# Altium footprint library SolidStateTeslaCoilPCBLIB.PcbLib: 16 footprints
Each footprint in its own frame and in the unit in brackets; x right, y up, seen from the top. Pads: shape width x height; smd on the part's side, far side on the other; paste and mask are expansions set on the pad; w line width, h text height; cw(c..) or ccw(c..) is an arc to the next point about the centre after c.
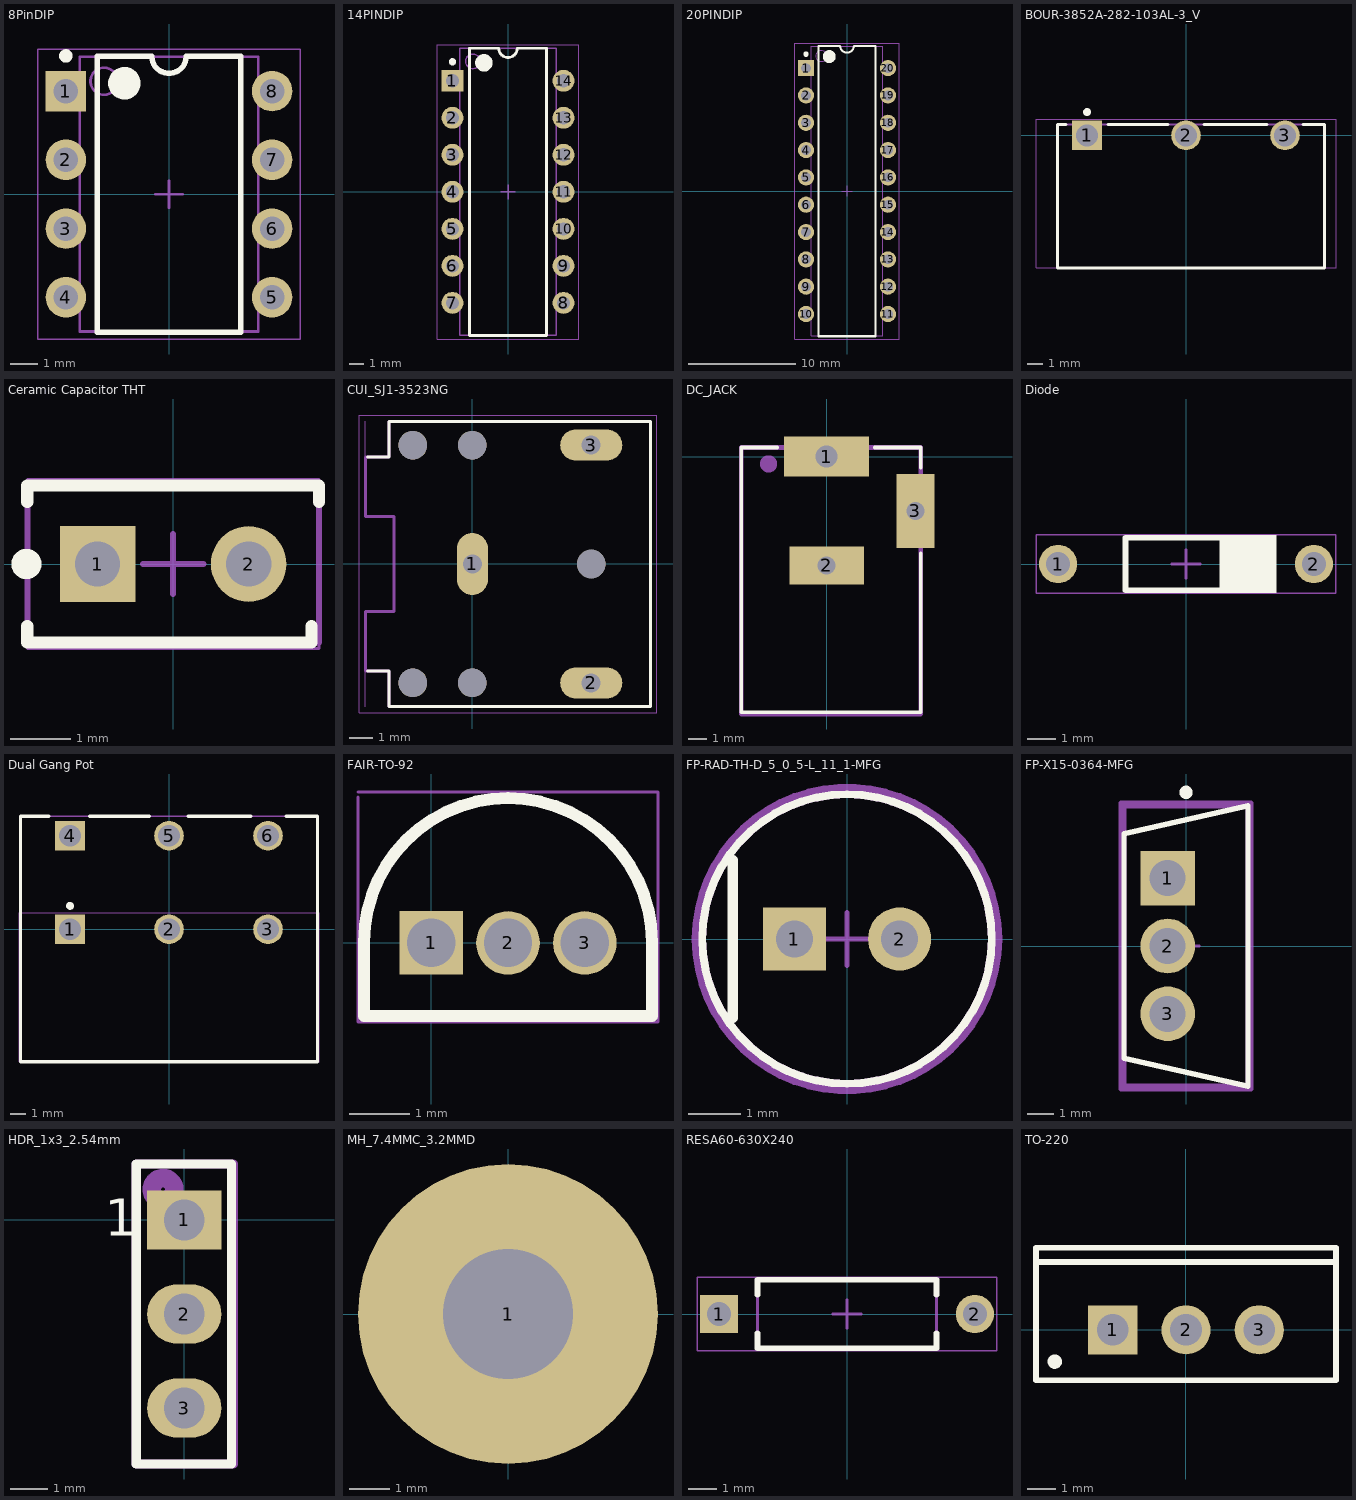
[diagram p0: the footprints below, top view; thin cyan lines are the x and y axes]

## 8PinDIP [mm] "DIP, 8-Leads, Body 10.15x6.6mm, Pitch 2.54mm"
height 5.08
pads (8):
  rect 1.5x1.5 hole 0.9: 1(-3.81,3.81)
  round 1.5 hole 0.9: 2(-3.81,1.27) 3(-3.81,-1.27) 4(-3.81,-3.81) 5(3.81,-3.81) 6(3.81,-1.27) 7(3.81,1.27) 8(3.81,3.81)
Top Overlay:
  circle w0.25: c-3.81,5.11 r0.125
  circle w0.6: c-1.65,4.1 r0.3
  lines w0.2: -2.65,-5.1 -2.65,5.1 -0.635,5.1 ccw(c0,5.1) 0.635,5.1 2.65,5.1 2.65,-5.1 -2.65,-5.1
Mechanical 1:
  text ".Designator" at -2.032,-0.381 h1.2
Mechanical 13:
  circle w0.1: c-2.4,4.175 r0.5
  lines w0.1: -3.3,-5.075 -3.3,5.075 3.3,5.075 3.3,-5.075 -3.3,-5.075
Mechanical 15:
  lines w0.05: -4.85,-5.35 -4.85,5.35 4.85,5.35 4.85,-5.35 -4.85,-5.35
  lines w0.1: -0.5,0 0.5,0 ; 0,-0.5 0,0.5
3D body: height 2.66, standoff 0, extent -3.945,3.31 -3.675,4.31
3D body: height 2.93, standoff 2.66, extent -3.945,3.31 -3.3,4.31
3D body: height 0, standoff -1.6, extent -3.945,3.45 -3.675,4.17
3D body: height 2.66, standoff 0, extent -3.945,0.77 -3.675,1.77
3D body: height 2.93, standoff 2.66, extent -3.945,0.77 -3.3,1.77
3D body: height 0, standoff -1.6, extent -3.945,0.91 -3.675,1.63
3D body: height 2.66, standoff 0, extent -3.945,-1.77 -3.675,-0.77
3D body: height 2.93, standoff 2.66, extent -3.945,-1.77 -3.3,-0.77
3D body: height 0, standoff -1.6, extent -3.945,-1.63 -3.675,-0.91
3D body: height 2.66, standoff 0, extent -3.945,-4.31 -3.675,-3.31
3D body: height 2.93, standoff 2.66, extent -3.945,-4.31 -3.3,-3.31
3D body: height 0, standoff -1.6, extent -3.945,-4.17 -3.675,-3.45
3D body: height 2.66, standoff 0, extent 3.675,-4.31 3.945,-3.31
3D body: height 2.93, standoff 2.66, extent 3.3,-4.31 3.945,-3.31
3D body: height 0, standoff -1.6, extent 3.675,-4.17 3.945,-3.45
3D body: height 2.66, standoff 0, extent 3.675,-1.77 3.945,-0.77
3D body: height 2.93, standoff 2.66, extent 3.3,-1.77 3.945,-0.77
3D body: height 0, standoff -1.6, extent 3.675,-1.63 3.945,-0.91
3D body: height 2.66, standoff 0, extent 3.675,0.77 3.945,1.77
3D body: height 2.93, standoff 2.66, extent 3.3,0.77 3.945,1.77
3D body: height 0, standoff -1.6, extent 3.675,0.91 3.945,1.63
3D body: height 2.66, standoff 0, extent 3.675,3.31 3.945,4.31
3D body: height 2.93, standoff 2.66, extent 3.3,3.31 3.945,4.31
3D body: height 0, standoff -1.6, extent 3.675,3.45 3.945,4.17
3D body: height 5.08, standoff 0.51, extent -3.3,-5.075 3.3,5.075

## 14PINDIP [mm] "DIP, 14-Leads, Body 19.7x6.6mm, Pitch 2.54mm"
height 5.08
pads (14):
  rect 1.5x1.5 hole 0.9: 1(-3.81,7.62)
  round 1.5 hole 0.9: 2(-3.81,5.08) 3(-3.81,2.54) 4(-3.81,0) 5(-3.81,-2.54) 6(-3.81,-5.08) 7(-3.81,-7.62) 8(3.81,-7.62) 9(3.81,-5.08) 10(3.81,-2.54) 11(3.81,0) 12(3.81,2.54) 13(3.81,5.08) 14(3.81,7.62)
Top Overlay:
  circle w0.25: c-3.81,8.92 r0.125
  circle w0.6: c-1.65,8.85 r0.3
  lines w0.2: -2.65,-9.85 -2.65,9.85 -0.635,9.85 ccw(c0,9.85) 0.635,9.85 2.65,9.85 2.65,-9.85 -2.65,-9.85
Mechanical 1:
  text ".Designator" at -3.048,-0.508 h1.2
Mechanical 13:
  circle w0.1: c-2.4,8.95 r0.5
  lines w0.1: -3.3,-9.85 -3.3,9.85 3.3,9.85 3.3,-9.85 -3.3,-9.85
Mechanical 15:
  lines w0.05: -4.85,-10.1 -4.85,10.1 4.85,10.1 4.85,-10.1 -4.85,-10.1
  lines w0.1: -0.5,0 0.5,0 ; 0,-0.5 0,0.5
3D body: height 2.66, standoff 0, extent -3.945,7.12 -3.675,8.12
3D body: height 2.93, standoff 2.66, extent -3.945,7.12 -3.3,8.12
3D body: height 0, standoff -1.6, extent -3.945,7.26 -3.675,7.98
3D body: height 2.66, standoff 0, extent -3.945,4.58 -3.675,5.58
3D body: height 2.93, standoff 2.66, extent -3.945,4.58 -3.3,5.58
3D body: height 0, standoff -1.6, extent -3.945,4.72 -3.675,5.44
3D body: height 2.66, standoff 0, extent -3.945,2.04 -3.675,3.04
3D body: height 2.93, standoff 2.66, extent -3.945,2.04 -3.3,3.04
3D body: height 0, standoff -1.6, extent -3.945,2.18 -3.675,2.9
3D body: height 2.66, standoff 0, extent -3.945,-0.5 -3.675,0.5
3D body: height 2.93, standoff 2.66, extent -3.945,-0.5 -3.3,0.5
3D body: height 0, standoff -1.6, extent -3.945,-0.36 -3.675,0.36
3D body: height 2.66, standoff 0, extent -3.945,-3.04 -3.675,-2.04
3D body: height 2.93, standoff 2.66, extent -3.945,-3.04 -3.3,-2.04
3D body: height 0, standoff -1.6, extent -3.945,-2.9 -3.675,-2.18
3D body: height 2.66, standoff 0, extent -3.945,-5.58 -3.675,-4.58
3D body: height 2.93, standoff 2.66, extent -3.945,-5.58 -3.3,-4.58
3D body: height 0, standoff -1.6, extent -3.945,-5.44 -3.675,-4.72
3D body: height 2.66, standoff 0, extent -3.945,-8.12 -3.675,-7.12
3D body: height 2.93, standoff 2.66, extent -3.945,-8.12 -3.3,-7.12
3D body: height 0, standoff -1.6, extent -3.945,-7.98 -3.675,-7.26
3D body: height 2.66, standoff 0, extent 3.675,-8.12 3.945,-7.12
3D body: height 2.93, standoff 2.66, extent 3.3,-8.12 3.945,-7.12
3D body: height 0, standoff -1.6, extent 3.675,-7.98 3.945,-7.26
3D body: height 2.66, standoff 0, extent 3.675,-5.58 3.945,-4.58
3D body: height 2.93, standoff 2.66, extent 3.3,-5.58 3.945,-4.58
3D body: height 0, standoff -1.6, extent 3.675,-5.44 3.945,-4.72
3D body: height 2.66, standoff 0, extent 3.675,-3.04 3.945,-2.04
3D body: height 2.93, standoff 2.66, extent 3.3,-3.04 3.945,-2.04
3D body: height 0, standoff -1.6, extent 3.675,-2.9 3.945,-2.18
3D body: height 2.66, standoff 0, extent 3.675,-0.5 3.945,0.5
3D body: height 2.93, standoff 2.66, extent 3.3,-0.5 3.945,0.5
3D body: height 0, standoff -1.6, extent 3.675,-0.36 3.945,0.36
3D body: height 2.66, standoff 0, extent 3.675,2.04 3.945,3.04
3D body: height 2.93, standoff 2.66, extent 3.3,2.04 3.945,3.04
3D body: height 0, standoff -1.6, extent 3.675,2.18 3.945,2.9
3D body: height 2.66, standoff 0, extent 3.675,4.58 3.945,5.58
3D body: height 2.93, standoff 2.66, extent 3.3,4.58 3.945,5.58
3D body: height 0, standoff -1.6, extent 3.675,4.72 3.945,5.44
3D body: height 2.66, standoff 0, extent 3.675,7.12 3.945,8.12
3D body: height 2.93, standoff 2.66, extent 3.3,7.12 3.945,8.12
3D body: height 0, standoff -1.6, extent 3.675,7.26 3.945,7.98
3D body: height 5.08, standoff 0.51, extent -3.3,-9.85 3.3,9.85

## 20PINDIP [mm] "DIP, 20-Leads, Body 26.9x6.6mm, Pitch 2.54mm"
height 5.08
pads (20):
  rect 1.5x1.5 hole 0.9: 1(-3.81,11.43)
  round 1.5 hole 0.9: 2(-3.81,8.89) 3(-3.81,6.35) 4(-3.81,3.81) 5(-3.81,1.27) 6(-3.81,-1.27) 7(-3.81,-3.81) 8(-3.81,-6.35) 9(-3.81,-8.89) 10(-3.81,-11.43) 11(3.81,-11.43) 12(3.81,-8.89) 13(3.81,-6.35) 14(3.81,-3.81) 15(3.81,-1.27) 16(3.81,1.27) 17(3.81,3.81) 18(3.81,6.35) 19(3.81,8.89) 20(3.81,11.43)
Top Overlay:
  circle w0.6: c-1.65,12.5 r0.3
  circle w0.25: c-3.81,12.73 r0.125
  lines w0.2: -2.65,-13.5 2.65,-13.5 2.65,13.5 0.635,13.5 cw(c0,13.5) -0.635,13.5 -2.65,13.5 -2.65,-13.5
Mechanical 1:
  text ".Designator" at -2.794,-0.381 h1.2
Mechanical 13:
  circle w0.1: c-2.4,12.55 r0.5
  lines w0.1: -3.3,-13.45 3.3,-13.45 3.3,13.45 -3.3,13.45 -3.3,-13.45
Mechanical 15:
  lines w0.05: -4.85,-13.75 4.85,-13.75 4.85,13.75 -4.85,13.75 -4.85,-13.75
  lines w0.1: -0.5,0 0.5,0 ; 0,-0.5 0,0.5
3D body: height 0, standoff -1.6, extent 3.675,11.07 3.945,11.79
3D body: height 2.93, standoff 2.66, extent 3.3,10.93 3.945,11.93
3D body: height 2.66, standoff 0, extent 3.675,10.93 3.945,11.93
3D body: height 0, standoff -1.6, extent 3.675,8.53 3.945,9.25
3D body: height 2.93, standoff 2.66, extent 3.3,8.39 3.945,9.39
3D body: height 2.66, standoff 0, extent 3.675,8.39 3.945,9.39
3D body: height 0, standoff -1.6, extent 3.675,5.99 3.945,6.71
3D body: height 2.93, standoff 2.66, extent 3.3,5.85 3.945,6.85
3D body: height 2.66, standoff 0, extent 3.675,5.85 3.945,6.85
3D body: height 0, standoff -1.6, extent 3.675,3.45 3.945,4.17
3D body: height 2.93, standoff 2.66, extent 3.3,3.31 3.945,4.31
3D body: height 2.66, standoff 0, extent 3.675,3.31 3.945,4.31
3D body: height 0, standoff -1.6, extent 3.675,0.91 3.945,1.63
3D body: height 2.93, standoff 2.66, extent 3.3,0.77 3.945,1.77
3D body: height 2.66, standoff 0, extent 3.675,0.77 3.945,1.77
3D body: height 0, standoff -1.6, extent 3.675,-1.63 3.945,-0.91
3D body: height 2.93, standoff 2.66, extent 3.3,-1.77 3.945,-0.77
3D body: height 2.66, standoff 0, extent 3.675,-1.77 3.945,-0.77
3D body: height 0, standoff -1.6, extent 3.675,-4.17 3.945,-3.45
3D body: height 2.93, standoff 2.66, extent 3.3,-4.31 3.945,-3.31
3D body: height 2.66, standoff 0, extent 3.675,-4.31 3.945,-3.31
3D body: height 0, standoff -1.6, extent 3.675,-6.71 3.945,-5.99
3D body: height 2.93, standoff 2.66, extent 3.3,-6.85 3.945,-5.85
3D body: height 2.66, standoff 0, extent 3.675,-6.85 3.945,-5.85
3D body: height 0, standoff -1.6, extent 3.675,-9.25 3.945,-8.53
3D body: height 2.93, standoff 2.66, extent 3.3,-9.39 3.945,-8.39
3D body: height 2.66, standoff 0, extent 3.675,-9.39 3.945,-8.39
3D body: height 0, standoff -1.6, extent 3.675,-11.79 3.945,-11.07
3D body: height 2.93, standoff 2.66, extent 3.3,-11.93 3.945,-10.93
3D body: height 2.66, standoff 0, extent 3.675,-11.93 3.945,-10.93
3D body: height 0, standoff -1.6, extent -3.945,-11.79 -3.675,-11.07
3D body: height 2.93, standoff 2.66, extent -3.945,-11.93 -3.3,-10.93
3D body: height 2.66, standoff 0, extent -3.945,-11.93 -3.675,-10.93
3D body: height 0, standoff -1.6, extent -3.945,-9.25 -3.675,-8.53
3D body: height 2.93, standoff 2.66, extent -3.945,-9.39 -3.3,-8.39
3D body: height 2.66, standoff 0, extent -3.945,-9.39 -3.675,-8.39
3D body: height 0, standoff -1.6, extent -3.945,-6.71 -3.675,-5.99
3D body: height 2.93, standoff 2.66, extent -3.945,-6.85 -3.3,-5.85
3D body: height 2.66, standoff 0, extent -3.945,-6.85 -3.675,-5.85
3D body: height 0, standoff -1.6, extent -3.945,-4.17 -3.675,-3.45
3D body: height 2.93, standoff 2.66, extent -3.945,-4.31 -3.3,-3.31
3D body: height 2.66, standoff 0, extent -3.945,-4.31 -3.675,-3.31
3D body: height 0, standoff -1.6, extent -3.945,-1.63 -3.675,-0.91
3D body: height 2.93, standoff 2.66, extent -3.945,-1.77 -3.3,-0.77
3D body: height 2.66, standoff 0, extent -3.945,-1.77 -3.675,-0.77
3D body: height 0, standoff -1.6, extent -3.945,0.91 -3.675,1.63
3D body: height 2.93, standoff 2.66, extent -3.945,0.77 -3.3,1.77
3D body: height 2.66, standoff 0, extent -3.945,0.77 -3.675,1.77
3D body: height 0, standoff -1.6, extent -3.945,3.45 -3.675,4.17
3D body: height 2.93, standoff 2.66, extent -3.945,3.31 -3.3,4.31
3D body: height 2.66, standoff 0, extent -3.945,3.31 -3.675,4.31
3D body: height 0, standoff -1.6, extent -3.945,5.99 -3.675,6.71
3D body: height 2.93, standoff 2.66, extent -3.945,5.85 -3.3,6.85
3D body: height 2.66, standoff 0, extent -3.945,5.85 -3.675,6.85
3D body: height 0, standoff -1.6, extent -3.945,8.53 -3.675,9.25
3D body: height 2.93, standoff 2.66, extent -3.945,8.39 -3.3,9.39
3D body: height 2.66, standoff 0, extent -3.945,8.39 -3.675,9.39
3D body: height 0, standoff -1.6, extent -3.945,11.07 -3.675,11.79
3D body: height 2.93, standoff 2.66, extent -3.945,10.93 -3.3,11.93
3D body: height 2.66, standoff 0, extent -3.945,10.93 -3.675,11.93
3D body: height 5.08, standoff 0.51, extent -3.3,-13.45 3.3,13.45

## BOUR-3852A-282-103AL-3_V [mm] "TH, 3-Leads, Body 19.81x19.05mm, Pitch 6.35mm"
height 9.525
pads (3):
  rect 1.9x1.9 hole 1.4: 1(-6.35,0)
  round 1.9 hole 1.4: 2(0,0) 3(6.35,0)
Top Overlay:
  circle w0.25: c-6.35,1.5 r0.125
  lines w0.2: -7.7,0.7 -8.255,0.7 -8.255,-8.5 8.89,-8.5 8.89,0.7 7.505,0.7 ; -5,0.7 -1.155,0.7 ; 1.155,0.7 5.195,0.7
Mechanical 1:
  text ".Designator" at -4.445,-4.191 h1.2
Mechanical 13:
  lines w0.1: -8.255,-8.5 -8.255,0.7 8.89,0.7 8.89,-8.5 -8.255,-8.5
Mechanical 15:
  lines w0.05: -9.625,-8.5 9.625,-8.5 9.625,1.05 -9.625,1.05 -9.625,-8.5
  lines w0.1: -0.5,0 0.5,0 ; 0,-0.5 0,0.5
3D body: height 19.05, standoff 0, extent -9.525,-6.41 9.525,0.7
3D body: height 15.62, standoff 3.43, extent -6.095,-15.94 6.095,-6.41
3D body: height 12.7, standoff 6.35, extent -3.175,-19.11 3.175,-15.94

## Ceramic Capacitor THT [mm] "THD, 2-Leads, Body 4x2.6mm"
height 5.6
pads (2):
  rect 1.25x1.25 hole 0.75: 1(-1.25,0)
  round 1.25 hole 0.75: 2(1.25,0)
Top Overlay:
  circle w0.25: c-2.425,0 r0.125
  lines w0.2: -2.413,-1.025 -2.413,-1.3 2.286,-1.3 2.286,-1.025 ; -2.413,1.025 -2.413,1.3 2.413,1.3 2.413,1.025
Mechanical 1:
  text ".Designator" at -0.889,-0.762 h1.2
Mechanical 13:
  lines w0.1: -2.413,-1.3 2.413,-1.3 2.413,1.27 -2.413,1.27 -2.413,-1.3
Mechanical 15:
  lines w0.05: -2.413,-1.4 2.413,-1.4 2.413,1.4 -2.413,1.4 -2.413,-1.4
  lines w0.1: -0.5,0 0.5,0 ; 0,-0.5 0,0.5
3D body "10pF Ceramic Disc 3.STEP": height 7.35, standoff -22.68, extent -2.35,-1.25 2.35,1.25

## CUI_SJ1-3523NG [mm]
pads (8):
  oval 1.308x2.616 hole 0.8 square: 1(0,0)
  oval 2.616x1.308 hole 0.8 square: 2(5,-5) 3(5,5)
  round 1.2 hole 1.2 unplated: ""(-2.5,-5) ""(-2.5,5) ""(0,-5) ""(0,5) ""(5,0)
Top Overlay:
  lines w0.127: -4.4,-4.5 -3.5,-4.5 -3.5,-6 7.5,-6 7.5,6 -3.5,6 -3.5,4.5 -4.4,4.5
Mechanical 1:
  lines w0: -4.5,-6 -4.5,-2 -3.3,-2 -3.3,2 -4.5,2 -4.5,6
Mechanical 13:
  lines w0.127: -4.5,-4.5 -4.5,-2 -3.3,-2 -3.3,2 -4.5,2 -4.5,4.5 -3.5,4.5 -3.5,6 7.5,6 7.5,-6 -3.5,-6 -3.5,-4.5 -4.5,-4.5
  text "PCB edge" at -12.502,6.001 h1.02
Mechanical 15:
  lines w0.05: -4.75,-6.25 7.75,-6.25 7.75,6.25 -4.75,6.25 -4.75,-6.25
3D body "CUI_DEVICES_SJ1-3523NG.step": height 6, standoff -2.8, extent -6.43,-6.127 7.62,5.873

## DC_JACK [mm]
pads (3):
  rect 4.7x2.2 hole 1.2 square: 1(0,0)
  rect 4.1x2.1 hole 1 square: 2(0,-6)
  rect 2.1x4.1 hole 1 square: 3(4.9,-3)
Top Overlay:
  lines w0.2: -2.725,0.5 -4.7,0.5 -4.7,-14.1 5.2,-14.1 5.2,-5.325 ; 2.65,0.5 5.2,0.5 5.2,-0.625
Mechanical 13:
  circle w0.5: c-3.2,-0.4 r0.224
  lines w0.254: -4.7,-14.2 5.2,-14.2 5.2,0.5 -4.7,0.5 -4.7,-14.2
  text ".Designator" at -2.8,-8.167 h1
3D body "DC Power Jack 5.5mm x 2.1mm.STEP": height 10.67, standoff -3.71, extent -4.67,-14.21 5.1,0.41

## Diode [mm] "SOD27, 2-Leads, Dia 1.85mm, Body Length 4.25mm, Pin Spacing 9mm"
height 1.85
pads (2):
  round 1.35 hole 0.85: 1(-4.5,0) 2(4.5,0)
Top Overlay:
  rectangle: 2.032,-1.016 3.181,1.016
  rectangle: 1.177,-0.961 2.159,0.889
  lines w0.2: -2.125,-0.925 -2.125,0.925 2.125,0.925 2.125,-0.925 -2.125,-0.925
Mechanical 1:
  text ".Designator" at -1.27,-0.381 h1.2
Mechanical 13:
  lines w0.1: -2.125,-0.925 2.125,-0.925 2.125,0.925 -2.125,0.925 -2.125,-0.925
Mechanical 15:
  lines w0.05: -5.275,-1.025 -5.275,1.025 5.275,1.025 5.275,-1.025 -5.275,-1.025
  lines w0.1: -0.5,0 0.5,0 ; 0,-0.5 0,0.5
3D body: height 1.85, standoff 0, extent -2.125,-0.927 2.125,0.923
3D body: height 1.2, standoff 0.64, extent -4.5,-0.28 -2.125,0.28
3D body: height 1.2, standoff 0.64, extent 2.125,-0.28 4.5,0.28
3D body: height 1.2, standoff 0.64, extent -4.78,-0.28 -4.22,0.28
3D body: height 0.92, standoff -2, extent 4.22,-0.28 4.78,0.28
3D body: height 0.92, standoff -2, extent -4.78,-0.28 -4.22,0.28
3D body: height 1.2, standoff 0.64, extent 4.22,-0.28 4.78,0.28

## Dual Gang Pot [mm] "TH, 3-Leads, Body 19.81x19.05mm, Pitch 6.35mm"
height 9.525
pads (6):
  rect 1.9x1.9 hole 1.4: 1(-6.35,0) 4(-6.35,6)
  round 1.9 hole 1.4: 2(0,0) 3(6.35,0) 5(0,6) 6(6.35,6)
Top Overlay:
  circle w0.25: c-6.35,1.5 r0.125
  lines w0.2: -7.7,7.25 -9.525,7.25 -9.525,-8.5 9.525,-8.5 9.525,7.25 7.505,7.25 ; -5.095,7.25 -1.25,7.25 ; 1.21,7.25 5.25,7.25
Mechanical 1:
  text ".Designator" at -1.524,-3.302 h1.2
Mechanical 13:
  lines w0.1: -9.525,-8.5 9.525,-8.5 9.525,7.25 -9.525,7.25 -9.525,-8.5
Mechanical 15:
  lines w0.05: -9.625,-8.5 -9.625,1.05 9.625,1.05 9.625,-8.5 -9.625,-8.5
  lines w0.1: -0.5,0 0.5,0 ; 0,-0.5 0,0.5
3D body: height 19.05, standoff 0, extent -9.525,0.129 9.525,7.239
3D body: height 19.05, standoff 0, extent -9.525,-6.41 9.525,0.7
3D body: height 15.62, standoff 3.43, extent -6.095,-15.94 6.095,-6.41
3D body: height 12.7, standoff 6.35, extent -3.175,-19.11 3.175,-15.94

## FAIR-TO-92 [mm] "TO, 3-Leads, Body Dia 4.79mm, Pitch 1.27mm"
height 5.33
pads (3):
  rect 1.05x1.05 hole 0.8 mask+0.05: 1(0,0)
  round 1.05 hole 0.8 mask+0.05: 2(1.27,0) 3(2.54,0)
Top Overlay:
  lines w0.2: -1.11,-1.21 -1.11,0.015 cw(c1.27,0.015) 3.65,0.015 3.65,-1.21 -1.11,-1.21
Mechanical 1:
  text ".Designator" at -0.508,0.508 h1.2
Mechanical 13:
  lines w0.1: -1.11,-1.21 -1.11,0.015 cw(c1.27,0.015) 3.65,0.015 3.65,-1.21 -1.11,-1.21
Mechanical 15:
  lines w0.05: -1.21,2.413 -1.21,-1.31 3.75,-1.31 3.75,2.495 -1.21,2.495
3D body: height 5.33, standoff 0, extent -1.111,-1.211 3.651,2.396

## FP-RAD-TH-D_5_0_5-L_11_1-MFG [mm]
pads (2):
  rect 1.2x1.2 hole 0.7 paste-1000 mask+0: 1(-1,0)
  round 1.2 hole 0.7 paste-1000 mask+0: 2(1,0)
Top Overlay:
  circle w0.15: c0,0 r2.75
  lines w0.2: -2.175,-1.5 -2.175,1.5
Mechanical 1:
  text ".Designator" at 0,0.188 h1
Top Courtyard:
  lines w0.2: -2.85,0 cw(c0,0) 2.85,0 cw(c0,0) -2.85,0
Mechanical 13:
  circle w0.15: c0,0 r2.75
Top Component Center:
  lines w0.1: -0.5,0 0.5,0 ; 0,-0.5 0,0.5
3D body "Cap_Panasonic_ECA1CM220B_eec.STEP": height 0.25, standoff 0, extent -2.85,-2.85 2.85,2.85

## FP-X15-0364-MFG [mm]
pads (3):
  rect 2.05x2.05 hole 1.35 paste-1000 mask+0: 1(-0.685,2.54)
  round 2.05 hole 1.35 paste-1000 mask+0: 2(-0.685,0) 3(-0.685,-2.54)
Top Overlay:
  circle w0.25: c0,5.76 r0.125
  lines w0.2: 2.325,-5.26 -2.325,-4.208 -2.325,4.208 2.325,5.26 ; 2.325,-5.21 2.325,5.21
Mechanical 1:
  text ".Designator" at 0,-0.001 h1
Top Courtyard:
  lines w0.2: -2.425,-5.36 -2.425,5.36 2.425,5.36 2.425,-5.36 -2.425,-5.36
Top Assembly:
  lines w0.2: -2.425,-5.36 -2.425,5.36 2.425,5.36 2.425,-5.36 -2.425,-5.36
Mechanical 13:
  lines w0.2: -2.325,-5.26 2.325,-5.26 2.325,5.26 -2.325,5.26 -2.325,-5.26
Top Component Center:
  lines w0.1: -0.5,0 0.5,0 ; 0,-0.5 0,0.5
3D body "Trans_Vishay_IRF830APBF_eec.STEP": height 0.25, standoff 0, extent -2.425,-5.36 2.425,5.36

## HDR_1x3_2.54mm [mm]
pads (3):
  rect 2x1.6 hole 1.1: 1(0,0)
  oval 2x1.6 hole 1.1: 2(0,-2.54) 3(0,-5.08)
Top Overlay:
  lines w0.254: -1.3,-6.59 1.275,-6.59 1.275,1.51 -1.3,1.51 -1.3,-6.59
  text "1" at -2.15,-0.425 h1
Mechanical 1:
  circle w0.5: c-0.575,0.825 r0.305
  lines w0.254: -1.3,-6.59 1.325,-6.59 1.325,1.51 -1.3,1.51 -1.3,-6.59
  text ".Designator" at 1.35,-4.04 h1.52
3D body "HDR 1X3.STEP": height 8.19, standoff -2.6, extent -1.213,-6.34 1.2,1.28

## MH_7.4MMC_3.2MMD [mm]
pads (1):
  round 7.4 hole 3.2: 1(0,0)

## RESA60-630X240 [mm] "Axial Resistor, 2-Leads, Dia 2.4mm, Body Length 6.3mm"
height 2.6
pads (2):
  rect 1.35x1.35 hole 0.85: 1(-4.5,0)
  round 1.35 hole 0.85: 2(4.5,0)
Top Overlay:
  lines w0.2: -3.15,-0.674 -3.15,-1.2 3.15,-1.2 3.15,-0.674 ; -3.15,0.674 -3.15,1.2 3.15,1.2 3.15,0.674
Mechanical 1:
  text ".Designator" at -2.794,-0.381 h1.2
Mechanical 13:
  lines w0.1: -3.15,-1.2 3.15,-1.2 3.15,1.2 -3.15,1.2 -3.15,-1.2
Mechanical 15:
  lines w0.05: -5.275,-1.3 -5.275,1.3 5.275,1.3 5.275,-1.3 -5.275,-1.3
  lines w0.1: -0.5,0 0.5,0 ; 0,-0.5 0,0.5
3D body: height 2.4, standoff 0, extent -3.15,-1.2 3.15,1.2
3D body: height 1.48, standoff 0.92, extent -4.5,-0.275 -3.15,0.275
3D body: height 1.48, standoff 0.92, extent -4.775,-0.275 -4.225,0.275
3D body: height 1.48, standoff 0.92, extent 3.15,-0.275 4.5,0.275
3D body: height 1.2, standoff -2, extent 4.225,-0.275 4.775,0.275
3D body: height 1.48, standoff 0.92, extent 4.225,-0.275 4.775,0.275
3D body: height 1.2, standoff -2, extent -4.775,-0.275 -4.225,0.275

## TO-220 [mm] "TO, Thru-Hole, Vertical, Heatsink Mounted; 3 In-Line Leads; Pitch 2.54 mm"
height 19.7
pads (3):
  rect 1.7x1.7 hole 1.1: 1(-2.54,0)
  round 1.7 hole 1.1: 2(0,0) 3(2.54,0)
Top Overlay:
  circle w0.25: c-4.55,-1.1 r0.125
  lines w0.2: -5.2,2.35 5.2,2.35 ; -5.2,-1.75 -5.2,2.85 5.2,2.85 5.2,-1.75 -5.2,-1.75
Mechanical 1:
  text ".Designator" at -2.921,0.127 h1.2
Mechanical 13:
  lines w0.1: -5.2,2.3 5.2,2.3 ; -5.2,-1.75 5.2,-1.75 5.2,2.85 -5.2,2.85 -5.2,-1.75
Mechanical 15:
  lines w0.1: -0.5,0 0.5,0 ; 0,-0.5 0,0.5
3D body: height 13.5, standoff 3.5, extent -5.25,-1.8 5.25,2.9
3D body: height 19.7, standoff 13.5, extent -5.2,2.3 5.2,2.849